# Altium schematic symbol library XM-15B.SchLib: 1 symbol
Pins are listed as number, name and electrical type; pins without a type are passive.

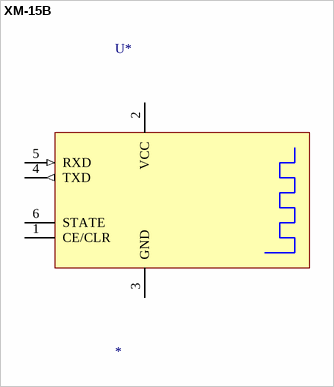
[diagram p0: symbol XM-15B]

## XM-15B
designator U*
footprint XM-05
pins: 1 CE/CLR, 2 VCC (power), 3 GND, 4 TXD (out), 5 RXD (in), 6 STATE
2 alternate drawings of the same symbol